# EAGLE library part DRV8701PRGER (library DRV8701PRGER)
Motor / Motion / Ignition Controllers & Drivers Brushed DC Motor Gate Driver (PH/EN, PWM Ctrl) 24-VQFN -40 to 125 Source: Datasheet <http://www.ti.com/lit/ds/symlink/drv8701.pdf>
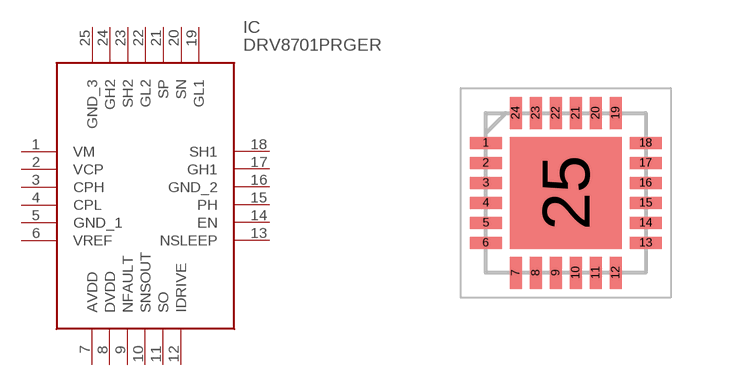
[diagram p0: symbol with the pads of QFN50P400X400X100-25N; footprint QFN50P400X400X100-25N]

Designator prefix IC

## DRV8701PRGER (Arrow_Part_Number: DRV8701PRGER; Arrow_Price-Stock: https://www.arrow.com/en/products/drv8701prger/texas-instruments?utm_currency=USD&region=nac; Description: Motor / Motion / Ignition Controllers & Drivers Brushed DC Motor Gate Driver (PH/EN, PWM Ctrl) 24-VQFN -40 to 125; Height: 1mm; Manufacturer_Name: Texas Instruments; Manufacturer_Part_Number: DRV8701PRGER; Mouser_Part_Number: 595-DRV8701PRGER; Mouser_Price-Stock: https://www.mouser.co.uk/ProductDetail/Texas-Instruments/DRV8701PRGER?qs=UfUFg%2FkmHHH%2F%252BOfCOaHj7g%3D%3D)  [QFN50P400X400X100-25N]
1  VM
2  VCP
3  CPH
4  CPL
5  GND_1
6  VREF
7  AVDD
8  DVDD
9  NFAULT
10  SNSOUT
11  SO
12  IDRIVE
13  NSLEEP
14  EN
15  PH
16  GND_2
17  GH1
18  SH1
19  GL1
20  SN
21  SP
22  GL2
23  SH2
24  GH2
25  GND_3

## Footprint QFN50P400X400X100-25N (pad centres in mm)
DRV8701PRGER-1
smd 0.8 x 0.3: 1 -2,1.25; 2 -2,0.75; 3 -2,0.25; 4 -2,-0.25; 5 -2,-0.75; 6 -2,-1.25; 13 2,-1.25; 14 2,-0.75; 15 2,-0.25; 16 2,0.25; 17 2,0.75; 18 2,1.25
smd 0.3 x 0.8: 7 -1.25,-2; 8 -0.75,-2; 9 -0.25,-2; 10 0.25,-2; 11 0.75,-2; 12 1.25,-2; 19 1.25,2; 20 0.75,2; 21 0.25,2; 22 -0.25,2; 23 -0.75,2; 24 -1.25,2
smd 2.8 x 2.8: 25 0,0